# Altium footprint library PQFP-64.PcbLib: 1 footprints
Each footprint in its own frame and in the unit in brackets; x right, y up, seen from the top. Pads: shape width x height; smd on the part's side, far side on the other; paste and mask are expansions set on the pad; w line width, h text height; cw(c..) or ccw(c..) is an arc to the next point about the centre after c.
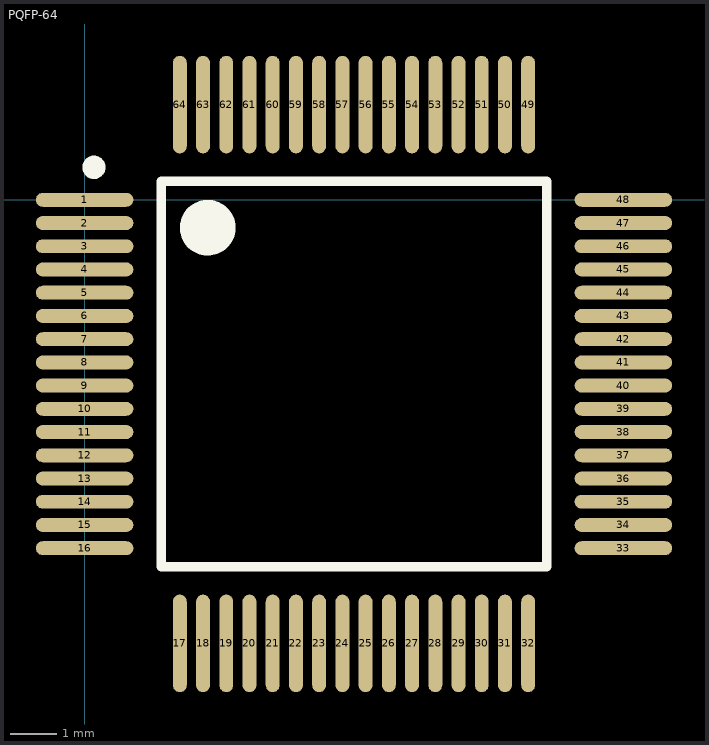
[diagram p0: the footprint, top view; thin cyan lines are the x and y axes]

## PQFP-64 [mm]
pads (64):
  oval 2.1x0.3 smd: 1(0,0) 2(0,-0.5) 3(0,-1) 4(0,-1.5) 5(0,-2) 6(0,-2.5) 7(0,-3) 8(0,-3.5) 9(0,-4) 10(0,-4.5) 11(0,-5) 12(0,-5.5) 13(0,-6) 14(0,-6.5) 15(0,-7) 16(0,-7.5) 33(11.6,-7.5) 34(11.6,-7) 35(11.6,-6.5) 36(11.6,-6) 37(11.6,-5.5) 38(11.6,-5) 39(11.6,-4.5) 40(11.6,-4) 41(11.6,-3.5) 42(11.6,-3) 43(11.6,-2.5) 44(11.6,-2) 45(11.6,-1.5) 46(11.6,-1) 47(11.6,-0.5) 48(11.6,0)
  oval 0.3x2.1 smd: 17(2.05,-9.55) 18(2.55,-9.55) 19(3.05,-9.55) 20(3.55,-9.55) 21(4.05,-9.55) 22(4.55,-9.55) 23(5.05,-9.55) 24(5.55,-9.55) 25(6.05,-9.55) 26(6.55,-9.55) 27(7.05,-9.55) 28(7.55,-9.55) 29(8.05,-9.55) 30(8.55,-9.55) 31(9.05,-9.55) 32(9.55,-9.55) 49(9.55,2.05) 50(9.05,2.05) 51(8.55,2.05) 52(8.05,2.05) 53(7.55,2.05) 54(7.05,2.05) 55(6.55,2.05) 56(6.05,2.05) 57(5.55,2.05) 58(5.05,2.05) 59(4.55,2.05) 60(4.05,2.05) 61(3.55,2.05) 62(3.05,2.05) 63(2.55,2.05) 64(2.05,2.05)
Top Overlay:
  circle w0.25: c0.2,0.7 r0.125
  circle w0.6: c2.65,-0.6 r0.3
  lines w0.2: 1.65,-7.9 1.65,0.4 9.95,0.4 9.95,-7.9 1.65,-7.9
3D body: height 1.02, standoff -0.09, extent 0.01,-9.541 11.585,2.04